# Altium footprint library Trans_Vishay_SI2312BDS-T1-E3_eec_0.PcbLib: 1 footprints
Each footprint in its own frame and in the unit in brackets; x right, y up, seen from the top. Pads: shape width x height; smd on the part's side, far side on the other; paste and mask are expansions set on the pad; w line width, h text height; cw(c..) or ccw(c..) is an arc to the next point about the centre after c.
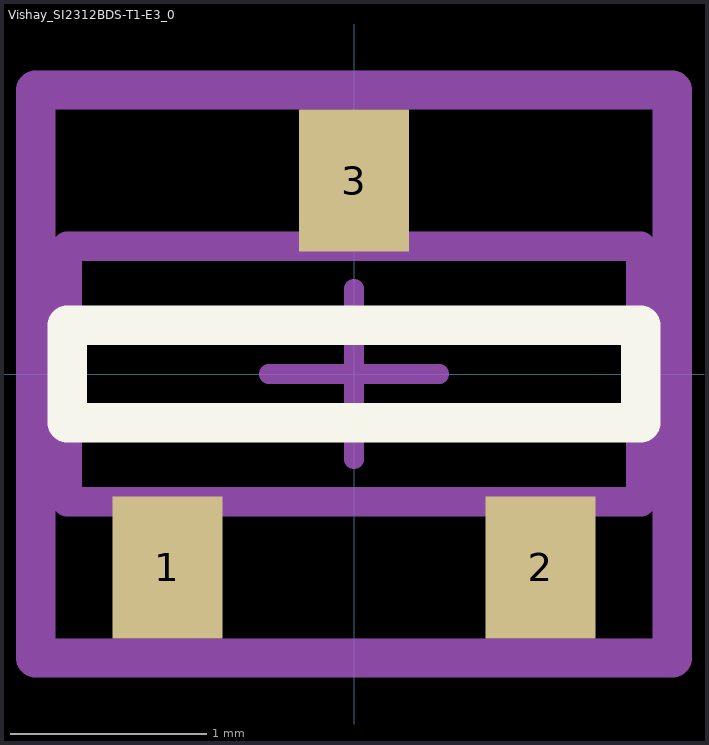
[diagram p0: the footprint, top view; thin cyan lines are the x and y axes]

## Vishay_SI2312BDS-T1-E3_0 [mm]
pads (3):
  rect 0.559x0.724 smd paste+0 mask+0: 1(-0.95,-0.984) 2(0.95,-0.984) 3(0,0.984)
Top Overlay:
  lines w0.2: -1.46,-0.248 1.46,-0.248 1.46,0.248 -1.46,0.248 -1.46,-0.248
Mechanical 10:
  lines w0.2: -1.62,-1.446 1.62,-1.446 1.62,1.446 -1.62,1.446 -1.62,-1.446
  text ".Designator" at 0,0 h1
Mechanical 12:
  lines w0.15: -1.46,-0.65 1.46,-0.65 1.46,0.65 -1.46,0.65 -1.46,-0.65
Mechanical 15:
  lines w0.1: -0.434,0 0.434,0 ; 0,-0.434 0,0.434
  lines w0.2: -1.62,-1.446 1.62,-1.446 1.62,1.446 -1.62,1.446 -1.62,-1.446
3D body "Trans_Vishay_SI2312BDS-T1-E3_eec.STEP": height 0.25, standoff 0, extent -1.62,-1.446 1.62,1.446